# EAGLE library part AT24CM01 (library IC_Memory)
I^2C-Compatible Serial EEPROM 1-Mbit Datasheet <https://www.mouser.in/datasheet/2/268/Atmel-8812-SEEPROM-AT24CM01-Datasheet-1368918.pdf>
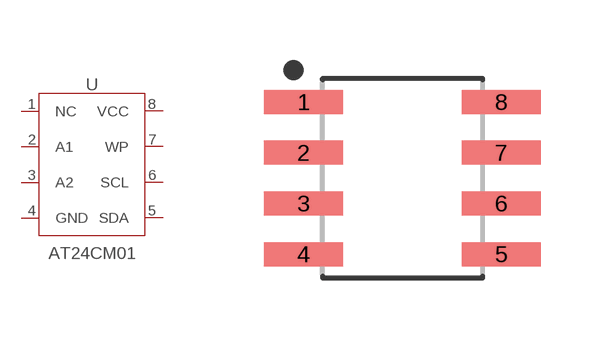
[diagram p3: symbol with the pads of SOIC127P600X175-8N; footprint SOIC127P600X175-8N]

Designator prefix -

## AT24CM01-SSHM-B (CATEGORY: IC_Memory; DESCRIPTION: IC EEPROM 1M I2C 1MHZ 8SOIC; MANUFACTURER: Microchip Technology; MPN: AT24CM01-SSHM-B; OPERATING_TEMP: -40 to +85 °C; PART_STATUS: Active; ROHS_COMPLIANT: RoHS3 Compliant; SERIES: AT24CM01; SUB_CATEGORY: EEPROM)  [SOIC127P600X175-8N]
1  NC  nc
2  A1  in
3  A2  in
4  GND  pwr
5  SDA
6  SCL  in
7  WP
8  VCC  pwr

## Footprint SOIC127P600X175-8N (pad centres in mm)
8-SOIC, 1.27 mm pitch, 6.00 mm span, 4.90 X 3.90 X 1.75 mm body 8-pin SOIC package with 1.27 mm pitch, 6.00 mm span with body size 4.90 X 3.90 X 1.75 mm
smd 1.968 x 0.599: 1 -2.473,1.905; 2 -2.473,0.635; 3 -2.473,-0.635; 4 -2.473,-1.905; 5 2.473,-1.905; 6 2.473,-0.635; 7 2.473,0.635; 8 2.473,1.905